# Altium schematic symbol library ESP32-C3-WROOM-2U.SchLib: 1 symbol
Pins are listed as number, name and electrical type; pins without a type are passive.

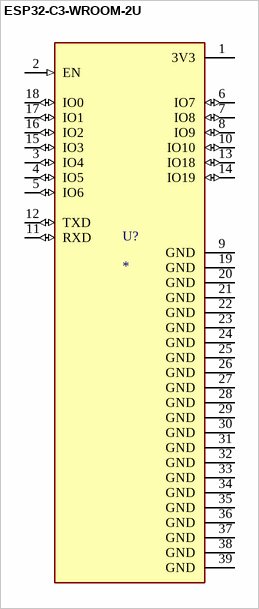
[diagram p0: symbol ESP32-C3-WROOM-2U]

## ESP32-C3-WROOM-2U
designator U?
2.4 GHz Wi-Fi (802.11b/g/n) and Bluetooth® 5 module. Built around ESP32-C3 series of SoCs, RISC-V single-core microprocessor. Flash up to 16 MB; Manufacturer: ESPRESSIF; Flash: 4 MB; Antenna: Antenna connector; Pin: 19; Chip Embedded: ESP32-C3; ComponentLink1Description: Datasheet; ComponentLink1URL: https://www.espressif.com/sites/default/files/documentation/esp32-c3-wroom-02_datasheet_en.pdf
footprint ESP32-C3-WROOM-2U
pins: 1 3V3 (power), 2 EN (in), 3 IO4 (io), 4 IO5 (io), 5 IO6 (io), 6 IO7 (io), 7 IO8 (io), 8 IO9 (io), 9 GND (power), 10 IO10 (io), 11 RXD (io), 12 TXD (io), 13 IO18 (io), 14 IO19 (io), 15 IO3 (io), 16 IO2 (io), 17 IO1 (io), 18 IO0 (io), 19 GND (power), 20 GND (power), 21 GND (power), 22 GND (power), 23 GND (power), 24 GND (power), 25 GND (power), 26 GND (power), 27 GND (power), 28 GND (power), 29 GND (power), 30 GND (power), 31 GND (power), 32 GND (power), 33 GND (power), 34 GND (power), 35 GND (power), 36 GND (power), 37 GND (power), 38 GND (power), 39 GND (power)